# EAGLE library part GL3224 (library GenesysLogic)
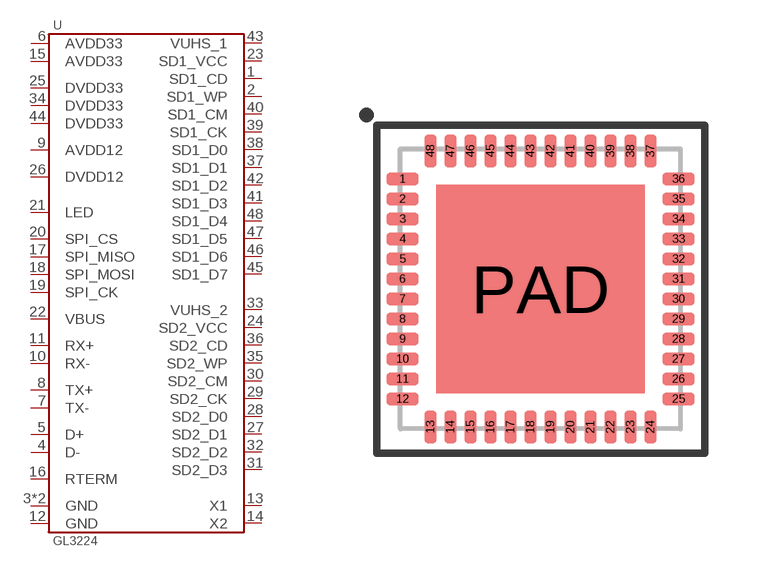
[diagram p0: symbol with the pads of QFN48; footprint QFN48]

Designator prefix U

## GL3224  [QFN48]
1  SD1_CD
2  SD1_WP
3  GND
4  D-
5  D+
6  AVDD33
7  TX-
8  TX+
9  AVDD12
10  RX-
11  RX+
12  GND
13  X1
14  X2
15  AVDD33
16  RTERM
17  SPI_MISO
18  SPI_MOSI
19  SPI_CK
20  SPI_CS
21  LED
22  VBUS
23  SD1_VCC
24  SD2_VCC
25  DVDD33
26  DVDD12
27  SD2_D1
28  SD2_D0
29  SD2_CK
30  SD2_CM
31  SD2_D3
32  SD2_D2
33  VUHS_2
34  DVDD33
35  SD2_WP
36  SD2_CD
37  SD1_D1
38  SD1_D0
39  SD1_CK
40  SD1_CM
41  SD1_D3
42  SD1_D2
43  VUHS_1
44  DVDD33
45  SD1_D7
46  SD1_D6
47  SD1_D5
48  SD1_D4
PAD  GND

## Footprint QFN48 (pad centres in mm)
smd 0.8 x 0.3: 1 -3.45,2.75; 2 -3.45,2.25; 3 -3.45,1.75; 4 -3.45,1.25; 5 -3.45,0.75; 6 -3.45,0.25; 7 -3.45,-0.25; 8 -3.45,-0.75; 9 -3.45,-1.25; 10 -3.45,-1.75; 11 -3.45,-2.25; 12 -3.45,-2.75; 25 3.45,-2.75; 26 3.45,-2.25; 27 3.45,-1.75; 28 3.45,-1.25; 29 3.45,-0.75; 30 3.45,-0.25; 31 3.45,0.25; 32 3.45,0.75; 33 3.45,1.25; 34 3.45,1.75; 35 3.45,2.25; 36 3.45,2.75
smd 0.3 x 0.8: 13 -2.75,-3.45; 14 -2.25,-3.45; 15 -1.75,-3.45; 16 -1.25,-3.45; 17 -0.75,-3.45; 18 -0.25,-3.45; 19 0.25,-3.45; 20 0.75,-3.45; 21 1.25,-3.45; 22 1.75,-3.45; 23 2.25,-3.45; 24 2.75,-3.45; 37 2.75,3.45; 38 2.25,3.45; 39 1.75,3.45; 40 1.25,3.45; 41 0.75,3.45; 42 0.25,3.45; 43 -0.25,3.45; 44 -0.75,3.45; 45 -1.25,3.45; 46 -1.75,3.45; 47 -2.25,3.45; 48 -2.75,3.45
smd 5.2 x 5.2: PAD 0,0